# Altium schematic symbol library Header_1x4.SchLib: 1 symbol
Pins are listed as number, name and electrical type; pins without a type are passive.

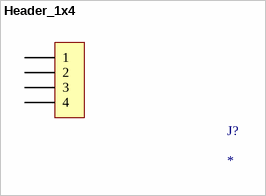
[diagram p0: symbol Header_1x4]

## Header_1x4
designator J?
pins: 1, 2, 3, 4